# Altium integrated library NSC Temperature Sensor.IntLib: 99 symbols (part 1 of 3)
Pins are listed as number, name and electrical type; pins without a type are passive.

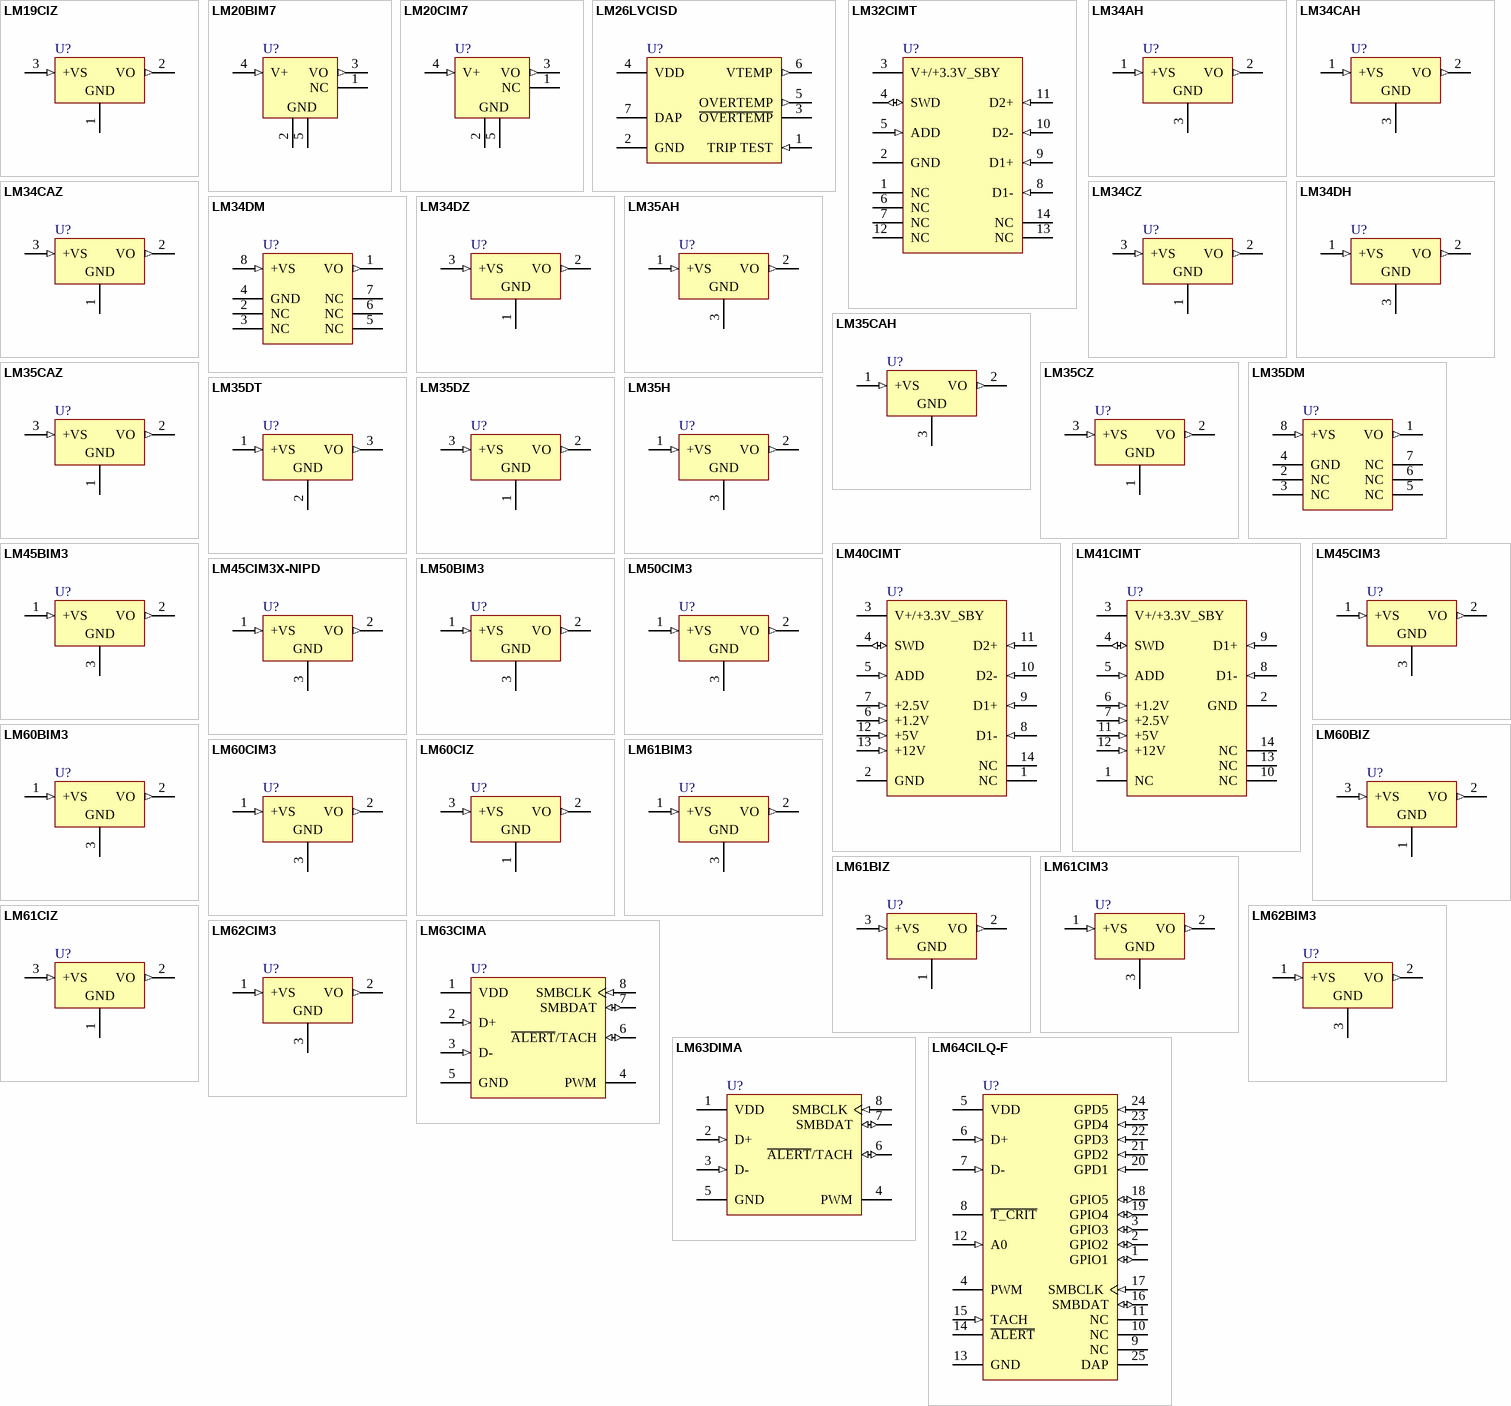
[diagram p0: symbols LM19CIZ to LM64CILQ-F]

## LM19CIZ
designator U?
2.4V, 10uA, TO-92 Temperature Sensor; PartNumber: LM19CIZ; Manufacturer: National Semiconductor; CompType: Temp Sensor IC; PackageTopMarking: NSXYTT*LM19*CIZ; Published: 4-Dec-2008; DatasheetVersion: Oct-2007; PackageVersion: revG, Sep-2000; PackageReference: Z03A; Publisher: Altium Limited; PackageDescription: TO-92, Molded, 3 Lead; RoHS: O; PinCount: 3; DigiKeyPartNumber: LM19CIZ-ND; Code_JEDEC: TO-226-AA; ComponentLink1Description: LM19 Datasheet; ComponentLink1URL: http://www.national.com/ds/LM/LM19.pdf; ComponentLink2Description: LM19 Web Page; ComponentLink2URL: http://www.national.com/pf/LM/LM19.html; ComponentLink3Description: Z03A Package Page; ComponentLink3URL: http://www.national.com/packaging/folders/z03a.html
footprint Z03A (TO, Flat Index; 3 In-Line, Axial Leads; Body Dia. 5mm; Leads 0.55 x 0.50 mm (max))
pins: 1 GND (power), 2 VO (out), 3 +VS (in)

## LM20BIM7
designator U?
2.4V, 10uA, SC70, micro SMD Temperature Sensor; PartNumber: LM20BIM7; Manufacturer: National Semiconductor; CompType: Temp Sensor IC; PackageTopMarking: T2B*XTT; Published: 4-Dec-2008; DatasheetVersion: Oct-2007; PackageVersion: revD, Jun-2007; PackageReference: MAA05A; Publisher: Altium Limited; PackageDescription: Molded SC-70, 2 x 1.25 x .9mm, 5 Lead, 0.65mm Pitch; RoHS: O; PinCount: 5; DigiKeyPartNumber: LM20BIM7CT-ND; Code_JEITA: SC-88A; Code_JEDEC: MO-203-AA; Code_IPC: SOT353-5; ComponentLink1Description: LM20 Datasheet; ComponentLink1URL: http://www.national.com/ds/LM/LM20.pdf; ComponentLink2Description: LM20 Web Page; ComponentLink2URL: http://www.national.com/pf/LM/LM20.html; ComponentLink3Description: MAA05A Package Page; ComponentLink3URL: http://www.national.com/packaging/folders/maa05a.html
footprint MAA05A_N (SOT353, 5-Leads, Body 2x1.3mm, Pitch 0.65mm, Lead Span 2.1mm, IPC Medium Density)
footprint MAA05A_L (SOT353, 5-Leads, Body 2x1.3mm, Pitch 0.65mm, Lead Span 2.1mm, IPC High Density)
footprint MAA05A_M (SOT353, 5-Leads, Body 2x1.3mm, Pitch 0.65mm, Lead Span 2.1mm, IPC Low Density)
pins: 1 NC "Not Connected", 2 GND (power) "Ground", 3 VO (out), 4 V+ (in), 5 GND (power) "Ground"

## LM20CIM7
designator U?
2.4V, 10uA, SC70, micro SMD Temperature Sensor; PartNumber: LM20CIM7; Manufacturer: National Semiconductor; CompType: Temp Sensor IC; PackageTopMarking: T2C*XTT; Published: 4-Dec-2008; DatasheetVersion: Oct-2007; PackageVersion: revD, Jun-2007; PackageReference: MAA05A; Publisher: Altium Limited; PackageDescription: Molded SC-70, 2 x 1.25 x .9mm, 5 Lead, 0.65mm Pitch; RoHS: O; PinCount: 5; DigiKeyPartNumber: LM20CIM7CT-ND; Code_JEITA: SC-88A; Code_JEDEC: MO-203-AA; Code_IPC: SOT353-5; ComponentLink1Description: LM20 Datasheet; ComponentLink1URL: http://www.national.com/ds/LM/LM20.pdf; ComponentLink2Description: LM20 Web Page; ComponentLink2URL: http://www.national.com/pf/LM/LM20.html; ComponentLink3Description: MAA05A Package Page; ComponentLink3URL: http://www.national.com/packaging/folders/maa05a.html
footprint MAA05A_N (SOT353, 5-Leads, Body 2x1.3mm, Pitch 0.65mm, Lead Span 2.1mm, IPC Medium Density)
footprint MAA05A_L (SOT353, 5-Leads, Body 2x1.3mm, Pitch 0.65mm, Lead Span 2.1mm, IPC High Density)
footprint MAA05A_M (SOT353, 5-Leads, Body 2x1.3mm, Pitch 0.65mm, Lead Span 2.1mm, IPC Low Density)
pins: 1 NC "Not Connected", 2 GND (power) "Ground", 3 VO (out), 4 V+ (in), 5 GND (power) "Ground"

## LM26LVCISD
designator U?
1.6V, LLP-6 Factory Preset Temperature Switch and Temperature Sensor; PartNumber: LM26LVCISD; Manufacturer: National Semiconductor; CompType: Temp Sensor IC; PackageTopMarking: XTT*XPE; Published: 4-Dec-2008; DatasheetVersion: May-2008; PackageVersion: revA, Nov-2003; PackageReference: SDB06A; Publisher: Altium Limited; PackageDescription: LLP, Plastic, Dual, 2.2 x 2.5 x 0.8mm Body, 6 Lead, 0.65mm Pitch, No Pullback; RoHS: O; PinCount: 6; DigiKeyPartNumber: LM26LVCISDCT-ND; ComponentLink1Description: LM26LV Datasheet; ComponentLink1URL: http://www.national.com/ds/LM/LM26LV.pdf; ComponentLink2Description: LM26LV Web Page; ComponentLink2URL: http://www.national.com/pf/LM/LM26LV.html; ComponentLink3Description: SDB06A Package Page; ComponentLink3URL: http://www.national.com/packaging/folders/sdb06a.html
footprint SDB06A (SON, 6-Leads, Body 2.2x2.5mm, Pitch 0.65mm, NSC Recommended (SC-70 Land))
pins: 1 TRIP TEST (in), 2 GND (power) "Ground", 3 ~{OVERTEMP} (oc), 4 VDD (power), 5 OVERTEMP (out), 6 VTEMP (out), 7 DAP (power) "Ground"

## LM32CIMT
designator U?
Dual Thermal Diode Temperature Sensor with SensorPath Bus; PartNumber: LM32CIMT; Manufacturer: National Semiconductor; CompType: Temp Sensor IC; PackageTopMarking: NSZXYTT*LM32*CIMT; Published: 4-Dec-2008; DatasheetVersion: May-2004; PackageVersion: revD, Jun-2003; PackageReference: MTC14; Publisher: Altium Limited; PackageDescription: Molded TSSOP, JEDEC, 5 x 4.4 x 0.9mm Body, 14 Lead, 0.65mm Pitch; RoHS: Y; PinCount: 14; DigiKeyPartNumber: LM32CIMT-ND; Code_JEDEC: MO-153-AB-1; ComponentLink1Description: LM32 Datasheet; ComponentLink1URL: http://www.national.com/ds.cgi/LM/LM32.pdf; ComponentLink2Description: LM32 Web Page; ComponentLink2URL: http://www.national.com/pf/LM/LM32.html; ComponentLink3Description: MTC14 Package Page; ComponentLink3URL: http://www.national.com/packaging/folders/mtc14.html
footprint MTC14_N (TSOP, 14-Leads, Body 5x4.4mm, Pitch 0.65mm, IPC Medium Density)
footprint MTC14_L (TSOP, 14-Leads, Body 5x4.4mm, Pitch 0.65mm, IPC High Density)
footprint MTC14_M (TSOP, 14-Leads, Body 5x4.4mm, Pitch 0.65mm, IPC Low Density)
pins: 1 NC, 2 GND (power), 3 V+/+3.3V_SBY (power), 4 SWD (io), 5 ADD (in), 6 NC, 7 NC, 8 D1- (in), 9 D1+ (in), 10 D2- (in), 11 D2+ (in), 12 NC, 13 NC, 14 NC

## LM34AH
designator U?
Precision Fahrenheit Temperature Sensor; PartNumber: LM34AH; Manufacturer: National Semiconductor; CompType: Temp Sensor IC; PackageTopMarking: NSXYTTE# LM34AH; Published: 4-Dec-2008; DatasheetVersion: Nov-2000; PackageVersion: revF, Apr-2002; PackageReference: H03H; Publisher: Altium Limited; PackageDescription: Metal Can, TO-46, 3 Lead, .100in Dia, P.C.; RoHS: O; PinCount: 3; DigiKeyPartNumber: LM34AH-ND; Code_JEDEC: TO-46; ComponentLink1Description: LM34 Datasheet; ComponentLink1URL: http://www.national.com/ds/LM/LM34.pdf; ComponentLink2Description: LM34 Web Page; ComponentLink2URL: http://www.national.com/pf/LM/LM34.html; ComponentLink3Description: H03H Package Page; ComponentLink3URL: http://www.national.com/packaging/folders/h03h.html
footprint H03H (Can; 3 Leads; Pin Circle Dia. 2.54 mm; Lead Dia. 0.48 mm (max))
pins: 1 +VS (in), 2 VO (out), 3 GND (power)

## LM34CAH
designator U?
Precision Fahrenheit Temperature Sensor; PartNumber: LM34CAH; Manufacturer: National Semiconductor; CompType: Temp Sensor IC; PackageTopMarking: NSXYTTE# LM34CAH; Published: 4-Dec-2008; DatasheetVersion: Nov-2000; PackageVersion: revF, Apr-2002; PackageReference: H03H; Publisher: Altium Limited; PackageDescription: Metal Can, TO-46, 3 Lead, .100in Dia, P.C.; RoHS: O; PinCount: 3; DigiKeyPartNumber: LM34CAH-ND; Code_JEDEC: TO-46; ComponentLink1Description: LM34 Datasheet; ComponentLink1URL: http://www.national.com/ds/LM/LM34.pdf; ComponentLink2Description: LM34 Web Page; ComponentLink2URL: http://www.national.com/pf/LM/LM34.html; ComponentLink3Description: H03H Package Page; ComponentLink3URL: http://www.national.com/packaging/folders/h03h.html
footprint H03H (Can; 3 Leads; Pin Circle Dia. 2.54 mm; Lead Dia. 0.48 mm (max))
pins: 1 +VS (in), 2 VO (out), 3 GND (power)

## LM34CAZ
designator U?
Precision Fahrenheit Temperature Sensor; PartNumber: LM34CAZ; Manufacturer: National Semiconductor; CompType: Temp Sensor IC; PackageTopMarking: NSXYTT*LM34*CAZ; Published: 4-Dec-2008; DatasheetVersion: Nov-2000; PackageVersion: revG, Sep-2000; PackageReference: Z03A; Publisher: Altium Limited; PackageDescription: TO-92, Molded, 3 Lead; RoHS: O; PinCount: 3; DigiKeyPartNumber: LM34CAZ-ND; Code_JEDEC: TO-226-AA; ComponentLink1Description: LM34 Datasheet; ComponentLink1URL: http://www.national.com/ds/LM/LM34.pdf; ComponentLink2Description: LM34 Web Page; ComponentLink2URL: http://www.national.com/pf/LM/LM34.html; ComponentLink3Description: Z03A Package Page; ComponentLink3URL: http://www.national.com/packaging/folders/z03a.html
footprint Z03A (TO, Flat Index; 3 In-Line, Axial Leads; Body Dia. 5mm; Leads 0.55 x 0.50 mm (max))
pins: 1 GND (power), 2 VO (out), 3 +VS (in)

## LM34CZ
designator U?
Precision Fahrenheit Temperature Sensor; PartNumber: LM34CZ; Manufacturer: National Semiconductor; CompType: Temp Sensor IC; PackageTopMarking: NSXYTT*LM34*CZ; Published: 4-Dec-2008; DatasheetVersion: Nov-2000; PackageVersion: revG, Sep-2000; PackageReference: Z03A; Publisher: Altium Limited; PackageDescription: TO-92, Molded, 3 Lead; RoHS: O; PinCount: 3; DigiKeyPartNumber: LM34CZ-ND; Code_JEDEC: TO-226-AA; ComponentLink1Description: LM34 Datasheet; ComponentLink1URL: http://www.national.com/ds/LM/LM34.pdf; ComponentLink2Description: LM34 Web Page; ComponentLink2URL: http://www.national.com/pf/LM/LM34.html; ComponentLink3Description: Z03A Package Page; ComponentLink3URL: http://www.national.com/packaging/folders/z03a.html
footprint Z03A (TO, Flat Index; 3 In-Line, Axial Leads; Body Dia. 5mm; Leads 0.55 x 0.50 mm (max))
pins: 1 GND (power), 2 VO (out), 3 +VS (in)

## LM34DH
designator U?
Precision Fahrenheit Temperature Sensor; PartNumber: LM34DH; Manufacturer: National Semiconductor; CompType: Temp Sensor IC; PackageTopMarking: NSXYTTE# LM34DH; Published: 4-Dec-2008; DatasheetVersion: Nov-2000; PackageVersion: revF, Apr-2002; PackageReference: H03H; Publisher: Altium Limited; PackageDescription: Metal Can, TO-46, 3 Lead, .100in Dia, P.C.; RoHS: O; PinCount: 3; Code_JEDEC: TO-46; ComponentLink1Description: LM34 Datasheet; ComponentLink1URL: http://www.national.com/ds/LM/LM34.pdf; ComponentLink2Description: LM34 Web Page; ComponentLink2URL: http://www.national.com/pf/LM/LM34.html; ComponentLink3Description: H03H Package Page; ComponentLink3URL: http://www.national.com/packaging/folders/h03h.html
footprint H03H (Can; 3 Leads; Pin Circle Dia. 2.54 mm; Lead Dia. 0.48 mm (max))
pins: 1 +VS (in), 2 VO (out), 3 GND (power)

## LM34DM
designator U?
Precision Fahrenheit Temperature Sensor; PartNumber: LM34DM; Manufacturer: National Semiconductor; CompType: Temp Sensor IC; PackageTopMarking: NSZXTT*LM34D*M; Published: 4-Dec-2008; DatasheetVersion: Nov-2000; PackageVersion: revL, Sep-2006; PackageReference: M08A; Publisher: Altium Limited; PackageDescription: SOIC Narrow, 4.9 x 3.9 x 1.45mm, 8 Lead, 1.27mm Pitch; RoHS: O; PinCount: 8; DigiKeyPartNumber: LM34DM-ND; Code_JEDEC: MS-012-AA; Code_IPC: SOIC127P600-8; ComponentLink1Description: LM34 Datasheet; ComponentLink1URL: http://www.national.com/ds/LM/LM34.pdf; ComponentLink2Description: LM34 Web Page; ComponentLink2URL: http://www.national.com/pf/LM/LM34.html; ComponentLink3Description: M08A Package Page; ComponentLink3URL: http://www.national.com/packaging/folders/m08a.html
footprint M08A_N (SOIC, 8-Leads, Body 4.9x3.9mm, Pitch 1.27mm, IPC Medium Density)
footprint M08A_L (SOIC, 8-Leads, Body 4.9x3.9mm, Pitch 1.27mm, IPC High Density)
footprint M08A_M (SOIC, 8-Leads, Body 4.9x3.9mm, Pitch 1.27mm, IPC Low Density)
pins: 1 VO (out), 2 NC "Not Connected", 3 NC, 4 GND (power), 5 NC, 6 NC, 7 NC, 8 +VS (in)

## LM34DZ
designator U?
Precision Fahrenheit Temperature Sensor; PartNumber: LM34DZ; Manufacturer: National Semiconductor; CompType: Temp Sensor IC; PackageTopMarking: NSXYTT*LM34*DZ; Published: 4-Dec-2008; DatasheetVersion: Nov-2000; PackageVersion: revG, Sep-2000; PackageReference: Z03A; Publisher: Altium Limited; PackageDescription: TO-92, Molded, 3 Lead; RoHS: O; PinCount: 3; DigiKeyPartNumber: LM34DZ-ND; Code_JEDEC: TO-226-AA; ComponentLink1Description: LM34 Datasheet; ComponentLink1URL: http://www.national.com/ds/LM/LM34.pdf; ComponentLink2Description: LM34 Web Page; ComponentLink2URL: http://www.national.com/pf/LM/LM34.html; ComponentLink3Description: Z03A Package Page; ComponentLink3URL: http://www.national.com/packaging/folders/z03a.html
footprint Z03A (TO, Flat Index; 3 In-Line, Axial Leads; Body Dia. 5mm; Leads 0.55 x 0.50 mm (max))
pins: 1 GND (power), 2 VO (out), 3 +VS (in)

## LM35AH
designator U?
Precision Centigrade Temperature Sensor; PartNumber: LM35AH; Manufacturer: National Semiconductor; CompType: Temp Sensor IC; PackageTopMarking: NSXYTTE# LM35AH; Published: 4-Dec-2008; DatasheetVersion: Nov-2000; PackageVersion: revF, Apr-2002; PackageReference: H03H; Publisher: Altium Limited; PackageDescription: Metal Can, TO-46, 3 Lead, .100in Dia, P.C.; RoHS: O; PinCount: 3; DigiKeyPartNumber: LM35AH-ND; Code_JEDEC: TO-46; ComponentLink1Description: LM35 Datasheet; ComponentLink1URL: http://www.national.com/ds/LM/LM35.pdf; ComponentLink2Description: LM35 Web Page; ComponentLink2URL: http://www.national.com/pf/LM/LM35.html; ComponentLink3Description: H03H Package Page; ComponentLink3URL: http://www.national.com/packaging/folders/h03h.html
footprint H03H (Can; 3 Leads; Pin Circle Dia. 2.54 mm; Lead Dia. 0.48 mm (max))
pins: 1 +VS (in), 2 VO (out), 3 GND (power)

## LM35CAH
designator U?
Precision Centigrade Temperature Sensor; PartNumber: LM35CAH; Manufacturer: National Semiconductor; CompType: Temp Sensor IC; PackageTopMarking: NSXYTTE# LM35CAH; Published: 4-Dec-2008; DatasheetVersion: Nov-2000; PackageVersion: revF, Apr-2002; PackageReference: H03H; Publisher: Altium Limited; PackageDescription: Metal Can, TO-46, 3 Lead, .100in Dia, P.C.; RoHS: O; PinCount: 3; DigiKeyPartNumber: LM35CAH-ND; Code_JEDEC: TO-46; ComponentLink1Description: LM35 Datasheet; ComponentLink1URL: http://www.national.com/ds/LM/LM35.pdf; ComponentLink2Description: LM35 Web Page; ComponentLink2URL: http://www.national.com/pf/LM/LM35.html; ComponentLink3Description: H03H Package Page; ComponentLink3URL: http://www.national.com/packaging/folders/h03h.html
footprint H03H (Can; 3 Leads; Pin Circle Dia. 2.54 mm; Lead Dia. 0.48 mm (max))
pins: 1 +VS (in), 2 VO (out), 3 GND (power)

## LM35CAZ
designator U?
Precision Centigrade Temperature Sensor; PartNumber: LM35CAZ; Manufacturer: National Semiconductor; CompType: Temp Sensor IC; PackageTopMarking: NSXYTT*LM35*CAZ; Published: 4-Dec-2008; DatasheetVersion: Nov-2000; PackageVersion: revG, Sep-2000; PackageReference: Z03A; Publisher: Altium Limited; PackageDescription: TO-92, Molded, 3 Lead; RoHS: O; PinCount: 3; DigiKeyPartNumber: LM35CAZ-ND; Code_JEDEC: TO-226-AA; ComponentLink1Description: LM35 Datasheet; ComponentLink1URL: http://www.national.com/ds/LM/LM35.pdf; ComponentLink2Description: LM35 Web Page; ComponentLink2URL: http://www.national.com/pf/LM/LM35.html; ComponentLink3Description: Z03A Package Page; ComponentLink3URL: http://www.national.com/packaging/folders/z03a.html
footprint Z03A (TO, Flat Index; 3 In-Line, Axial Leads; Body Dia. 5mm; Leads 0.55 x 0.50 mm (max))
pins: 1 GND (power), 2 VO (out), 3 +VS (in)

## LM35CZ
designator U?
Precision Centigrade Temperature Sensor; PartNumber: LM35CZ; Manufacturer: National Semiconductor; CompType: Temp Sensor IC; PackageTopMarking: NSXYTT*LM35*CZ; Published: 4-Dec-2008; DatasheetVersion: Nov-2000; PackageVersion: revG, Sep-2000; PackageReference: Z03A; Publisher: Altium Limited; PackageDescription: TO-92, Molded, 3 Lead; RoHS: O; PinCount: 3; DigiKeyPartNumber: LM35CZ-ND; Code_JEDEC: TO-226-AA; ComponentLink1Description: LM35 Datasheet; ComponentLink1URL: http://www.national.com/ds/LM/LM35.pdf; ComponentLink2Description: LM35 Web Page; ComponentLink2URL: http://www.national.com/pf/LM/LM35.html; ComponentLink3Description: Z03A Package Page; ComponentLink3URL: http://www.national.com/packaging/folders/z03a.html
footprint Z03A (TO, Flat Index; 3 In-Line, Axial Leads; Body Dia. 5mm; Leads 0.55 x 0.50 mm (max))
pins: 1 GND (power), 2 VO (out), 3 +VS (in)

## LM35DM
designator U?
Precision Centigrade Temperature Sensor; PartNumber: LM35DM; Manufacturer: National Semiconductor; CompType: Temp Sensor IC; PackageTopMarking: NSZXTT*LM35D*M; Published: 4-Dec-2008; DatasheetVersion: Nov-2000; PackageVersion: revL, Sep-2006; PackageReference: M08A; Publisher: Altium Limited; PackageDescription: SOIC Narrow, 4.9 x 3.9 x 1.45mm, 8 Lead, 1.27mm Pitch; RoHS: O; PinCount: 8; DigiKeyPartNumber: LM35DM-ND; Code_JEDEC: MS-012-AA; Code_IPC: SOIC127P600-8; ComponentLink1Description: LM35 Datasheet; ComponentLink1URL: http://www.national.com/ds/LM/LM35.pdf; ComponentLink2Description: LM35 Web Page; ComponentLink2URL: http://www.national.com/pf/LM/LM35.html; ComponentLink3Description: M08A Package Page; ComponentLink3URL: http://www.national.com/packaging/folders/m08a.html
footprint M08A_N (SOIC, 8-Leads, Body 4.9x3.9mm, Pitch 1.27mm, IPC Medium Density)
footprint M08A_L (SOIC, 8-Leads, Body 4.9x3.9mm, Pitch 1.27mm, IPC High Density)
footprint M08A_M (SOIC, 8-Leads, Body 4.9x3.9mm, Pitch 1.27mm, IPC Low Density)
pins: 1 VO (out), 2 NC "Not Connected", 3 NC, 4 GND (power), 5 NC, 6 NC, 7 NC, 8 +VS (in)

## LM35DT
designator U?
Precision Centigrade Temperature Sensor; PartNumber: LM35DT; Manufacturer: National Semiconductor; CompType: Temp Sensor IC; PackageTopMarking: NSUZXYTTE#*LM35DT; Published: 4-Dec-2008; DatasheetVersion: Nov-2000; PackageVersion: revL, Jan-1993; PackageReference: TA03F; Publisher: Altium Limited; PackageDescription: TO-220, Molded, 3 Lead, Auto L/F; RoHS: O; PinCount: 3; DigiKeyPartNumber: LM35DT-ND; Code_JEDEC: TO-220-AB; ComponentLink1Description: LM35 Datasheet; ComponentLink1URL: http://www.national.com/ds/LM/LM35.pdf; ComponentLink2Description: LM35 Web Page; ComponentLink2URL: http://www.national.com/pf/LM/LM35.html; ComponentLink3Description: TA03F Package Page; ComponentLink3URL: http://www.national.com/packaging/folders/ta03f.html
footprint TA03F (TO, Thru-Hole, Vertical, Heatsink Mounted; 3 In-Line Leads; Pitch 2.54 mm)
pins: 1 +VS (in), 2 GND (power), 3 VO (out)

## LM35DZ
designator U?
Precision Centigrade Temperature Sensor; PartNumber: LM35DZ; Manufacturer: National Semiconductor; CompType: Temp Sensor IC; PackageTopMarking: NSXYTT*LM35*DZ; Published: 4-Dec-2008; DatasheetVersion: Nov-2000; PackageVersion: revG, Sep-2000; PackageReference: Z03A; Publisher: Altium Limited; PackageDescription: TO-92, Molded, 3 Lead; RoHS: O; PinCount: 3; DigiKeyPartNumber: LM35DZ-ND; Code_JEDEC: TO-226-AA; ComponentLink1Description: LM35 Datasheet; ComponentLink1URL: http://www.national.com/ds/LM/LM35.pdf; ComponentLink2Description: LM35 Web Page; ComponentLink2URL: http://www.national.com/pf/LM/LM35.html; ComponentLink3Description: Z03A Package Page; ComponentLink3URL: http://www.national.com/packaging/folders/z03a.html
footprint Z03A (TO, Flat Index; 3 In-Line, Axial Leads; Body Dia. 5mm; Leads 0.55 x 0.50 mm (max))
pins: 1 GND (power), 2 VO (out), 3 +VS (in)

## LM35H
designator U?
Precision Centigrade Temperature Sensor; PartNumber: LM35H; Manufacturer: National Semiconductor; CompType: Temp Sensor IC; PackageTopMarking: NSXYTTE# LM35H; Published: 4-Dec-2008; DatasheetVersion: Nov-2000; PackageVersion: revF, Apr-2002; PackageReference: H03H; Publisher: Altium Limited; PackageDescription: Metal Can, TO-46, 3 Lead, .100in Dia, P.C.; RoHS: O; PinCount: 3; Code_JEDEC: TO-46; ComponentLink1Description: LM35 Datasheet; ComponentLink1URL: http://www.national.com/ds/LM/LM35.pdf; ComponentLink2Description: LM35 Web Page; ComponentLink2URL: http://www.national.com/pf/LM/LM35.html; ComponentLink3Description: H03H Package Page; ComponentLink3URL: http://www.national.com/packaging/folders/h03h.html
footprint H03H (Can; 3 Leads; Pin Circle Dia. 2.54 mm; Lead Dia. 0.48 mm (max))
pins: 1 +VS (in), 2 VO (out), 3 GND (power)

## LM40CIMT
designator U?
Hardware Monitor with Dual Thermal Diodes and SensorPath Bus; PartNumber: LM40CIMT; Manufacturer: National Semiconductor; CompType: Temp Sensor IC; PackageTopMarking: NSZXYTT*LM40*CIMT; Published: 4-Dec-2008; DatasheetVersion: May-2004; PackageVersion: revD, Jun-2003; PackageReference: MTC14; Publisher: Altium Limited; PackageDescription: Molded TSSOP, JEDEC, 5 x 4.4 x 0.9mm Body, 14 Lead, 0.65mm Pitch; RoHS: Y; PinCount: 14; DigiKeyPartNumber: LM40CIMT-ND; Code_JEDEC: MO-153-AB-1; ComponentLink1Description: LM40 Datasheet; ComponentLink1URL: http://www.national.com/ds/LM/LM40.pdf; ComponentLink2Description: LM40 Web Page; ComponentLink2URL: http://www.national.com/pf/LM/LM40.html; ComponentLink3Description: MTC14 Package Page; ComponentLink3URL: http://www.national.com/packaging/folders/mtc14.html
footprint MTC14_N (TSOP, 14-Leads, Body 5x4.4mm, Pitch 0.65mm, IPC Medium Density)
footprint MTC14_L (TSOP, 14-Leads, Body 5x4.4mm, Pitch 0.65mm, IPC High Density)
footprint MTC14_M (TSOP, 14-Leads, Body 5x4.4mm, Pitch 0.65mm, IPC Low Density)
pins: 1 NC, 2 GND (power), 3 V+/+3.3V_SBY (power), 4 SWD (io), 5 ADD (in), 6 +1.2V (in), 7 +2.5V (in), 8 D1- (in), 9 D1+ (in), 10 D2- (in), 11 D2+ (in), 12 +5V (in), 13 +12V (in), 14 NC

## LM41CIMT
designator U?
Hardware Monitor with Thermal Diode Inputs and SensorPath Bus; PartNumber: LM41CIMT; Manufacturer: National Semiconductor; CompType: Temp Sensor IC; PackageTopMarking: NSZXYTT*LM41*CIMT; Published: 4-Dec-2008; DatasheetVersion: May-2004; PackageVersion: revD, Jun-2003; PackageReference: MTC14; Publisher: Altium Limited; PackageDescription: Molded TSSOP, JEDEC, 5 x 4.4 x 0.9mm Body, 14 Lead, 0.65mm Pitch; RoHS: Y; PinCount: 14; DigiKeyPartNumber: LM41CIMT-ND; Code_JEDEC: MO-153-AB-1; ComponentLink1Description: LM41 Datasheet; ComponentLink1URL: http://www.national.com/ds/LM/LM41.pdf; ComponentLink2Description: LM41 Web Page; ComponentLink2URL: http://www.national.com/pf/LM/LM41.html; ComponentLink3Description: MTC14 Package Page; ComponentLink3URL: http://www.national.com/packaging/folders/mtc14.html
footprint MTC14_N (TSOP, 14-Leads, Body 5x4.4mm, Pitch 0.65mm, IPC Medium Density)
footprint MTC14_L (TSOP, 14-Leads, Body 5x4.4mm, Pitch 0.65mm, IPC High Density)
footprint MTC14_M (TSOP, 14-Leads, Body 5x4.4mm, Pitch 0.65mm, IPC Low Density)
pins: 1 NC, 2 GND (power), 3 V+/+3.3V_SBY (power), 4 SWD (io), 5 ADD (in), 6 +1.2V (in), 7 +2.5V (in), 8 D1- (in), 9 D1+ (in), 10 NC, 11 +5V (in), 12 +12V (in), 13 NC, 14 NC

## LM45BIM3
designator U?
SOT-23 Precision Centigrade Temperature Sensor; PartNumber: LM45BIM3; Manufacturer: National Semiconductor; CompType: Temp Sensor IC; PackageTopMarking: T4B*XTT; Published: 4-Dec-2008; DatasheetVersion: Aug-2005; PackageVersion: revB, Mar-2003; PackageReference: MF03A; Publisher: Altium Limited; PackageDescription: Molded SOT-23, .115 x .051 x .037in Body, 3 Lead, .075 in Pitch; RoHS: O; PinCount: 3; DigiKeyPartNumber: LM45BIM3CT-ND; ComponentLink1Description: LM45 Datasheet; ComponentLink1URL: http://www.national.com/ds/LM/LM45.pdf; ComponentLink2Description: LM45 Web Page; ComponentLink2URL: http://www.national.com/pf/LM/LM45.html; ComponentLink3Description: MF03A Package Page; ComponentLink3URL: http://www.national.com/packaging/folders/mf03a.html
footprint MF03A_N (SOT23, 3-Leads, Body 2.9x1.3mm, Pitch 0.95mm, Lead Span 2.4mm, IPC Medium Density)
footprint MF03A_L (SOT23, 3-Leads, Body 2.9x1.3mm, Pitch 0.95mm, Lead Span 2.4mm, IPC High Density)
footprint MF03A_M (SOT23, 3-Leads, Body 2.9x1.3mm, Pitch 0.95mm, Lead Span 2.4mm, IPC Low Density)
pins: 1 +VS (in), 2 VO (out), 3 GND (power)

## LM45CIM3
designator U?
SOT-23 Precision Centigrade Temperature Sensor; PartNumber: LM45CIM3; Manufacturer: National Semiconductor; CompType: Temp Sensor IC; PackageTopMarking: T4C*XTT; Published: 4-Dec-2008; DatasheetVersion: Aug-2005; PackageVersion: revB, Mar-2003; PackageReference: MF03A; Publisher: Altium Limited; PackageDescription: Molded SOT-23, .115 x .051 x .037in Body, 3 Lead, .075 in Pitch; RoHS: O; PinCount: 3; DigiKeyPartNumber: LM45CIM3CT-ND; ComponentLink1Description: LM45 Datasheet; ComponentLink1URL: http://www.national.com/ds/LM/LM45.pdf; ComponentLink2Description: LM45 Web Page; ComponentLink2URL: http://www.national.com/pf/LM/LM45.html; ComponentLink3Description: MF03A Package Page; ComponentLink3URL: http://www.national.com/packaging/folders/mf03a.html
footprint MF03A_N (SOT23, 3-Leads, Body 2.9x1.3mm, Pitch 0.95mm, Lead Span 2.4mm, IPC Medium Density)
footprint MF03A_L (SOT23, 3-Leads, Body 2.9x1.3mm, Pitch 0.95mm, Lead Span 2.4mm, IPC High Density)
footprint MF03A_M (SOT23, 3-Leads, Body 2.9x1.3mm, Pitch 0.95mm, Lead Span 2.4mm, IPC Low Density)
pins: 1 +VS (in), 2 VO (out), 3 GND (power)

## LM45CIM3X-NIPD
designator U?
SOT-23 Precision Centigrade Temperature Sensor; PartNumber: LM45CIM3X-NIPD; Manufacturer: National Semiconductor; CompType: Temp Sensor IC; PackageTopMarking: T4N*XTT; Published: 4-Dec-2008; DatasheetVersion: Aug-2005; PackageVersion: revB, Mar-2003; PackageReference: MF03A; Publisher: Altium Limited; PackageDescription: Molded SOT-23, .115 x .051 x .037in Body, 3 Lead, .075 in Pitch; RoHS: Y; PinCount: 3; ComponentLink1Description: LM45 Datasheet; ComponentLink1URL: http://www.national.com/ds/LM/LM45.pdf; ComponentLink2Description: LM45 Web Page; ComponentLink2URL: http://www.national.com/pf/LM/LM45.html; ComponentLink3Description: MF03A Package Page; ComponentLink3URL: http://www.national.com/packaging/folders/mf03a.html
footprint MF03A_N (SOT23, 3-Leads, Body 2.9x1.3mm, Pitch 0.95mm, Lead Span 2.4mm, IPC Medium Density)
footprint MF03A_L (SOT23, 3-Leads, Body 2.9x1.3mm, Pitch 0.95mm, Lead Span 2.4mm, IPC High Density)
footprint MF03A_M (SOT23, 3-Leads, Body 2.9x1.3mm, Pitch 0.95mm, Lead Span 2.4mm, IPC Low Density)
pins: 1 +VS (in), 2 VO (out), 3 GND (power)

## LM50BIM3
designator U?
SOT-23 Single-Supply Centigrade Temperature Sensor; PartNumber: LM50BIM3; Manufacturer: National Semiconductor; CompType: Temp Sensor IC; PackageTopMarking: T5B*XTT; Published: 4-Dec-2008; DatasheetVersion: Feb-2006; PackageVersion: revB, Mar-2003; PackageReference: MF03A; Publisher: Altium Limited; PackageDescription: Molded SOT-23, .115 x .051 x .037in Body, 3 Lead, .075 in Pitch; RoHS: O; PinCount: 3; DigiKeyPartNumber: LM50BIM3CT-ND; ComponentLink1Description: LM50 Datasheet; ComponentLink1URL: http://www.national.com/ds/LM/LM50.pdf; ComponentLink2Description: LM50 Web Page; ComponentLink2URL: http://www.national.com/pf/LM/LM50.html; ComponentLink3Description: MF03A Package Page; ComponentLink3URL: http://www.national.com/packaging/folders/mf03a.html
footprint MF03A_N (SOT23, 3-Leads, Body 2.9x1.3mm, Pitch 0.95mm, Lead Span 2.4mm, IPC Medium Density)
footprint MF03A_L (SOT23, 3-Leads, Body 2.9x1.3mm, Pitch 0.95mm, Lead Span 2.4mm, IPC High Density)
footprint MF03A_M (SOT23, 3-Leads, Body 2.9x1.3mm, Pitch 0.95mm, Lead Span 2.4mm, IPC Low Density)
pins: 1 +VS (in), 2 VO (out), 3 GND (power)

## LM50CIM3
designator U?
SOT-23 Single-Supply Centigrade Temperature Sensor; PartNumber: LM50CIM3; Manufacturer: National Semiconductor; CompType: Temp Sensor IC; PackageTopMarking: T5C*XTT; Published: 4-Dec-2008; DatasheetVersion: Feb-2006; PackageVersion: revB, Mar-2003; PackageReference: MF03A; Publisher: Altium Limited; PackageDescription: Molded SOT-23, .115 x .051 x .037in Body, 3 Lead, .075 in Pitch; RoHS: O; PinCount: 3; DigiKeyPartNumber: LM50CIM3CT-ND; ComponentLink1Description: LM50 Datasheet; ComponentLink1URL: http://www.national.com/ds/LM/LM50.pdf; ComponentLink2Description: LM50 Web Page; ComponentLink2URL: http://www.national.com/pf/LM/LM50.html; ComponentLink3Description: MF03A Package Page; ComponentLink3URL: http://www.national.com/packaging/folders/mf03a.html
footprint MF03A_N (SOT23, 3-Leads, Body 2.9x1.3mm, Pitch 0.95mm, Lead Span 2.4mm, IPC Medium Density)
footprint MF03A_L (SOT23, 3-Leads, Body 2.9x1.3mm, Pitch 0.95mm, Lead Span 2.4mm, IPC High Density)
footprint MF03A_M (SOT23, 3-Leads, Body 2.9x1.3mm, Pitch 0.95mm, Lead Span 2.4mm, IPC Low Density)
pins: 1 +VS (in), 2 VO (out), 3 GND (power)

## LM60BIM3
designator U?
2.7V, SOT-23 or TO-92 Temperature Sensor; PartNumber: LM60BIM3; Manufacturer: National Semiconductor; CompType: Temp Sensor IC; PackageTopMarking: T6B*XTT; Published: 4-Dec-2008; DatasheetVersion: Aug-2005; PackageVersion: revB, Mar-2003; PackageReference: MF03A; Publisher: Altium Limited; PackageDescription: Molded SOT-23, .115 x .051 x .037in Body, 3 Lead, .075 in Pitch; RoHS: O; PinCount: 3; DigiKeyPartNumber: LM60BIM3CT-ND; ComponentLink1Description: LM60 Datasheet; ComponentLink1URL: http://www.national.com/ds/LM/LM60.pdf; ComponentLink2Description: LM60 Web Page; ComponentLink2URL: http://www.national.com/pf/LM/LM60.html; ComponentLink3Description: MF03A Package Page; ComponentLink3URL: http://www.national.com/packaging/folders/mf03a.html
footprint MF03A_N (SOT23, 3-Leads, Body 2.9x1.3mm, Pitch 0.95mm, Lead Span 2.4mm, IPC Medium Density)
footprint MF03A_L (SOT23, 3-Leads, Body 2.9x1.3mm, Pitch 0.95mm, Lead Span 2.4mm, IPC High Density)
footprint MF03A_M (SOT23, 3-Leads, Body 2.9x1.3mm, Pitch 0.95mm, Lead Span 2.4mm, IPC Low Density)
pins: 1 +VS (in), 2 VO (out), 3 GND (power)

## LM60BIZ
designator U?
2.7V, SOT-23 or TO-92 Temperature Sensor; PartNumber: LM60BIZ; Manufacturer: National Semiconductor; CompType: Temp Sensor IC; PackageTopMarking: NSXYTT*LM60*BIZ; Published: 4-Dec-2008; DatasheetVersion: Aug-2005; PackageVersion: revG, Sep-2000; PackageReference: Z03A; Publisher: Altium Limited; PackageDescription: TO-92, Molded, 3 Lead; RoHS: Y; PinCount: 3; DigiKeyPartNumber: LM60BIZ-ND; Code_JEDEC: TO-226-AA; ComponentLink1Description: LM60 Datasheet; ComponentLink1URL: http://www.national.com/ds/LM/LM60.pdf; ComponentLink2Description: LM60 Web Page; ComponentLink2URL: http://www.national.com/pf/LM/LM60.html; ComponentLink3Description: Z03A Package Page; ComponentLink3URL: http://www.national.com/packaging/folders/z03a.html
footprint Z03A (TO, Flat Index; 3 In-Line, Axial Leads; Body Dia. 5mm; Leads 0.55 x 0.50 mm (max))
pins: 1 GND (power), 2 VO (out), 3 +VS (in)

## LM60CIM3
designator U?
2.7V, SOT-23 or TO-92 Temperature Sensor; PartNumber: LM60CIM3; Manufacturer: National Semiconductor; CompType: Temp Sensor IC; PackageTopMarking: T6C*XTT; Published: 4-Dec-2008; DatasheetVersion: Aug-2005; PackageVersion: revB, Mar-2003; PackageReference: MF03A; Publisher: Altium Limited; PackageDescription: Molded SOT-23, .115 x .051 x .037in Body, 3 Lead, .075 in Pitch; RoHS: O; PinCount: 3; DigiKeyPartNumber: LM60CIM3CT-ND; ComponentLink1Description: LM60 Datasheet; ComponentLink1URL: http://www.national.com/ds/LM/LM60.pdf; ComponentLink2Description: LM60 Web Page; ComponentLink2URL: http://www.national.com/pf/LM/LM60.html; ComponentLink3Description: MF03A Package Page; ComponentLink3URL: http://www.national.com/packaging/folders/mf03a.html
footprint MF03A_N (SOT23, 3-Leads, Body 2.9x1.3mm, Pitch 0.95mm, Lead Span 2.4mm, IPC Medium Density)
footprint MF03A_L (SOT23, 3-Leads, Body 2.9x1.3mm, Pitch 0.95mm, Lead Span 2.4mm, IPC High Density)
footprint MF03A_M (SOT23, 3-Leads, Body 2.9x1.3mm, Pitch 0.95mm, Lead Span 2.4mm, IPC Low Density)
pins: 1 +VS (in), 2 VO (out), 3 GND (power)

## LM60CIZ
designator U?
2.7V, SOT-23 or TO-92 Temperature Sensor; PartNumber: LM60CIZ; Manufacturer: National Semiconductor; CompType: Temp Sensor IC; PackageTopMarking: NSXYTT*LM60*CIZ; Published: 4-Dec-2008; DatasheetVersion: Aug-2005; PackageVersion: revG, Sep-2000; PackageReference: Z03A; Publisher: Altium Limited; PackageDescription: TO-92, Molded, 3 Lead; RoHS: Y; PinCount: 3; DigiKeyPartNumber: LM60CIZ-ND; Code_JEDEC: TO-226-AA; ComponentLink1Description: LM60 Datasheet; ComponentLink1URL: http://www.national.com/ds/LM/LM60.pdf; ComponentLink2Description: LM60 Web Page; ComponentLink2URL: http://www.national.com/pf/LM/LM60.html; ComponentLink3Description: Z03A Package Page; ComponentLink3URL: http://www.national.com/packaging/folders/z03a.html
footprint Z03A (TO, Flat Index; 3 In-Line, Axial Leads; Body Dia. 5mm; Leads 0.55 x 0.50 mm (max))
pins: 1 GND (power), 2 VO (out), 3 +VS (in)

## LM61BIM3
designator U?
2.7V, SOT-23 or TO-92 Temperature Sensor; PartNumber: LM61BIM3; Manufacturer: National Semiconductor; CompType: Temp Sensor IC; PackageTopMarking: T1B*XTT; Published: 4-Dec-2008; DatasheetVersion: Aug-2005; PackageVersion: revB, Mar-2003; PackageReference: MF03A; Publisher: Altium Limited; PackageDescription: Molded SOT-23, .115 x .051 x .037in Body, 3 Lead, .075 in Pitch; RoHS: O; PinCount: 3; DigiKeyPartNumber: LM61BIM3CT-ND; ComponentLink1Description: LM61 Datasheet; ComponentLink1URL: http://www.national.com/ds/LM/LM61.pdf; ComponentLink2Description: LM61 Web Page; ComponentLink2URL: http://www.national.com/pf/LM/LM61.html; ComponentLink3Description: MF03A Package Page; ComponentLink3URL: http://www.national.com/packaging/folders/mf03a.html
footprint MF03A_N (SOT23, 3-Leads, Body 2.9x1.3mm, Pitch 0.95mm, Lead Span 2.4mm, IPC Medium Density)
footprint MF03A_L (SOT23, 3-Leads, Body 2.9x1.3mm, Pitch 0.95mm, Lead Span 2.4mm, IPC High Density)
footprint MF03A_M (SOT23, 3-Leads, Body 2.9x1.3mm, Pitch 0.95mm, Lead Span 2.4mm, IPC Low Density)
pins: 1 +VS (in), 2 VO (out), 3 GND (power)

## LM61BIZ
designator U?
2.7V, SOT-23 or TO-92 Temperature Sensor; PartNumber: LM61BIZ; Manufacturer: National Semiconductor; CompType: Temp Sensor IC; PackageTopMarking: NSXYTT*LM61*BIZ; Published: 4-Dec-2008; DatasheetVersion: Aug-2005; PackageVersion: revG, Sep-2000; PackageReference: Z03A; Publisher: Altium Limited; PackageDescription: TO-92, Molded, 3 Lead; RoHS: Y; PinCount: 3; DigiKeyPartNumber: LM61BIZ-ND; Code_JEDEC: TO-226-AA; ComponentLink1Description: LM61 Datasheet; ComponentLink1URL: http://www.national.com/ds/LM/LM61.pdf; ComponentLink2Description: LM61 Web Page; ComponentLink2URL: http://www.national.com/pf/LM/LM61.html; ComponentLink3Description: Z03A Package Page; ComponentLink3URL: http://www.national.com/packaging/folders/z03a.html
footprint Z03A (TO, Flat Index; 3 In-Line, Axial Leads; Body Dia. 5mm; Leads 0.55 x 0.50 mm (max))
pins: 1 GND (power), 2 VO (out), 3 +VS (in)

## LM61CIM3
designator U?
2.7V, SOT-23 or TO-92 Temperature Sensor; PartNumber: LM61CIM3; Manufacturer: National Semiconductor; CompType: Temp Sensor IC; PackageTopMarking: T1C*XTT; Published: 4-Dec-2008; DatasheetVersion: Aug-2005; PackageVersion: revB, Mar-2003; PackageReference: MF03A; Publisher: Altium Limited; PackageDescription: Molded SOT-23, .115 x .051 x .037in Body, 3 Lead, .075 in Pitch; RoHS: O; PinCount: 3; DigiKeyPartNumber: LM61CIM3CT-ND; ComponentLink1Description: LM61 Datasheet; ComponentLink1URL: http://www.national.com/ds/LM/LM61.pdf; ComponentLink2Description: LM61 Web Page; ComponentLink2URL: http://www.national.com/pf/LM/LM61.html; ComponentLink3Description: MF03A Package Page; ComponentLink3URL: http://www.national.com/packaging/folders/mf03a.html
footprint MF03A_N (SOT23, 3-Leads, Body 2.9x1.3mm, Pitch 0.95mm, Lead Span 2.4mm, IPC Medium Density)
footprint MF03A_L (SOT23, 3-Leads, Body 2.9x1.3mm, Pitch 0.95mm, Lead Span 2.4mm, IPC High Density)
footprint MF03A_M (SOT23, 3-Leads, Body 2.9x1.3mm, Pitch 0.95mm, Lead Span 2.4mm, IPC Low Density)
pins: 1 +VS (in), 2 VO (out), 3 GND (power)

## LM61CIZ
designator U?
2.7V, SOT-23 or TO-92 Temperature Sensor; PartNumber: LM61CIZ; Manufacturer: National Semiconductor; CompType: Temp Sensor IC; PackageTopMarking: NSXYTT*LM61*CIZ; Published: 4-Dec-2008; DatasheetVersion: Aug-2005; PackageVersion: revG, Sep-2000; PackageReference: Z03A; Publisher: Altium Limited; PackageDescription: TO-92, Molded, 3 Lead; RoHS: Y; PinCount: 3; DigiKeyPartNumber: LM61CIZ-ND; Code_JEDEC: TO-226-AA; ComponentLink1Description: LM61 Datasheet; ComponentLink1URL: http://www.national.com/ds/LM/LM61.pdf; ComponentLink2Description: LM61 Web Page; ComponentLink2URL: http://www.national.com/pf/LM/LM61.html; ComponentLink3Description: Z03A Package Page; ComponentLink3URL: http://www.national.com/packaging/folders/z03a.html
footprint Z03A (TO, Flat Index; 3 In-Line, Axial Leads; Body Dia. 5mm; Leads 0.55 x 0.50 mm (max))
pins: 1 GND (power), 2 VO (out), 3 +VS (in)

## LM62BIM3
designator U?
2.7V, 15.6mV/deg C, SOT-23 Temperature Sensor; PartNumber: LM62BIM3; Manufacturer: National Semiconductor; CompType: Temp Sensor IC; PackageTopMarking: T7B*XTT; Published: 4-Dec-2008; DatasheetVersion: Aug-2005; PackageVersion: revB, Mar-2003; PackageReference: MF03A; Publisher: Altium Limited; PackageDescription: Molded SOT-23, .115 x .051 x .037in Body, 3 Lead, .075 in Pitch; RoHS: O; PinCount: 3; DigiKeyPartNumber: LM62BIM3CT-ND; ComponentLink1Description: LM62 Datasheet; ComponentLink1URL: http://www.national.com/ds/LM/LM62.pdf; ComponentLink2Description: LM62 Web Page; ComponentLink2URL: http://www.national.com/pf/LM/LM62.html; ComponentLink3Description: MF03A Package Page; ComponentLink3URL: http://www.national.com/packaging/folders/mf03a.html
footprint MF03A_N (SOT23, 3-Leads, Body 2.9x1.3mm, Pitch 0.95mm, Lead Span 2.4mm, IPC Medium Density)
footprint MF03A_L (SOT23, 3-Leads, Body 2.9x1.3mm, Pitch 0.95mm, Lead Span 2.4mm, IPC High Density)
footprint MF03A_M (SOT23, 3-Leads, Body 2.9x1.3mm, Pitch 0.95mm, Lead Span 2.4mm, IPC Low Density)
pins: 1 +VS (in), 2 VO (out), 3 GND (power)

## LM62CIM3
designator U?
2.7V, 15.6mV/deg C, SOT-23 Temperature Sensor; PartNumber: LM62CIM3; Manufacturer: National Semiconductor; CompType: Temp Sensor IC; PackageTopMarking: T7C*XTT; Published: 4-Dec-2008; DatasheetVersion: Aug-2005; PackageVersion: revB, Mar-2003; PackageReference: MF03A; Publisher: Altium Limited; PackageDescription: Molded SOT-23, .115 x .051 x .037in Body, 3 Lead, .075 in Pitch; RoHS: O; PinCount: 3; DigiKeyPartNumber: LM62CIM3CT-ND; ComponentLink1Description: LM62 Datasheet; ComponentLink1URL: http://www.national.com/ds/LM/LM62.pdf; ComponentLink2Description: LM62 Web Page; ComponentLink2URL: http://www.national.com/pf/LM/LM62.html; ComponentLink3Description: MF03A Package Page; ComponentLink3URL: http://www.national.com/packaging/folders/mf03a.html
footprint MF03A_N (SOT23, 3-Leads, Body 2.9x1.3mm, Pitch 0.95mm, Lead Span 2.4mm, IPC Medium Density)
footprint MF03A_L (SOT23, 3-Leads, Body 2.9x1.3mm, Pitch 0.95mm, Lead Span 2.4mm, IPC High Density)
footprint MF03A_M (SOT23, 3-Leads, Body 2.9x1.3mm, Pitch 0.95mm, Lead Span 2.4mm, IPC Low Density)
pins: 1 +VS (in), 2 VO (out), 3 GND (power)

## LM63CIMA
designator U?
±1ºC/±3ºC Accurate Remote Diode Digital Temperature Sensor with Integrated Fan Control; PartNumber: LM63CIMA; Manufacturer: National Semiconductor; CompType: Temp Sensor IC; PackageTopMarking: NSZXTT*LM63*CIMA; Published: 4-Dec-2008; DatasheetVersion: May-2003; PackageVersion: revL, Sep-2006; PackageReference: M08A; Publisher: Altium Limited; PackageDescription: SOIC Narrow, 4.9 x 3.9 x 1.45mm, 8 Lead, 1.27mm Pitch; RoHS: Y; PinCount: 8; DigiKeyPartNumber: LM63CIMA-ND; Code_JEDEC: MS-012-AA; Code_IPC: SOIC127P600-8; ComponentLink1Description: LM63 Datasheet; ComponentLink1URL: http://www.national.com/ds/LM/LM63.pdf; ComponentLink2Description: LM63 Web Page; ComponentLink2URL: http://www.national.com/pf/LM/LM63.html; ComponentLink3Description: M08A Package Page; ComponentLink3URL: http://www.national.com/packaging/folders/m08a.html
footprint M08A_N (SOIC, 8-Leads, Body 4.9x3.9mm, Pitch 1.27mm, IPC Medium Density)
footprint M08A_L (SOIC, 8-Leads, Body 4.9x3.9mm, Pitch 1.27mm, IPC High Density)
footprint M08A_M (SOIC, 8-Leads, Body 4.9x3.9mm, Pitch 1.27mm, IPC Low Density)
pins: 1 VDD (power), 2 D+ (in), 3 D- (in), 4 PWM (oc), 5 GND (power), 6 ~{ALERT}/TACH (io), 7 SMBDAT (io), 8 SMBCLK (in)

## LM63DIMA
designator U?
±1ºC/±3ºC Accurate Remote Diode Digital Temperature Sensor with Integrated Fan Control; PartNumber: LM63DIMA; Manufacturer: National Semiconductor; CompType: Temp Sensor IC; PackageTopMarking: NSZXTT*LM63*DIMA; Published: 4-Dec-2008; DatasheetVersion: May-2003; PackageVersion: revL, Sep-2006; PackageReference: M08A; Publisher: Altium Limited; PackageDescription: SOIC Narrow, 4.9 x 3.9 x 1.45mm, 8 Lead, 1.27mm Pitch; RoHS: O; PinCount: 8; DigiKeyPartNumber: LM63DIMA-ND; Code_JEDEC: MS-012-AA; Code_IPC: SOIC127P600-8; ComponentLink1Description: LM63 Datasheet; ComponentLink1URL: http://www.national.com/ds/LM/LM63.pdf; ComponentLink2Description: LM63 Web Page; ComponentLink2URL: http://www.national.com/pf/LM/LM63.html; ComponentLink3Description: M08A Package Page; ComponentLink3URL: http://www.national.com/packaging/folders/m08a.html
footprint M08A_N (SOIC, 8-Leads, Body 4.9x3.9mm, Pitch 1.27mm, IPC Medium Density)
footprint M08A_L (SOIC, 8-Leads, Body 4.9x3.9mm, Pitch 1.27mm, IPC High Density)
footprint M08A_M (SOIC, 8-Leads, Body 4.9x3.9mm, Pitch 1.27mm, IPC Low Density)
pins: 1 VDD (power), 2 D+ (in), 3 D- (in), 4 PWM (oc), 5 GND (power), 6 ~{ALERT}/TACH (io), 7 SMBDAT (io), 8 SMBCLK (in)

## LM64CILQ-F
designator U?
±1ºC Remote Diode Temperature Sensor with PWM Fan Control and 5 GPIO's; PartNumber: LM64CILQ-F; Manufacturer: National Semiconductor; CompType: Temp Sensor IC; PackageTopMarking: NS*UZXYTT*64CILQF; Published: 4-Dec-2008; DatasheetVersion: Dec-2003; PackageVersion: revB, Sep-2003; PackageReference: LQA24A; Publisher: Altium Limited; PackageDescription: LLP, Plastic, Quad, 5 x 4 x 0.8mm Body, 24 Lead, 0.5mm Pitch; RoHS: Y; PinCount: 24; DigiKeyPartNumber: LM64CILQ-F-ND; ComponentLink1Description: LM64 Datasheet; ComponentLink1URL: http://www.national.com/ds/LM/LM64.pdf; ComponentLink2Description: LM64 Web Page; ComponentLink2URL: http://www.national.com/pf/LM/LM64.html; ComponentLink3Description: LQA24A Package Page; ComponentLink3URL: http://www.national.com/packaging/folders/lqa24a.html
footprint LQA24A (PQFN, 24-Leads, Body 4x5mm, Pitch 0.5mm, NSC Recommended)
pins: 1 GPIO1 (io), 2 GPIO2 (io), 3 GPIO3 (io), 4 PWM (oc), 5 VDD (power), 6 D+ (in), 7 D- (in), 8 ~{T_CRIT} (oc), 9 NC, 10 NC, 11 NC, 12 A0 (in), 13 GND (power), 14 ~{ALERT} (oc), 15 TACH (in), 16 SMBDAT (io), 17 SMBCLK (in), 18 GPIO5 (io), 19 GPIO4 (io), 20 GPD1 (in), 21 GPD2 (in), 22 GPD3 (in), 23 GPD4 (in), 24 GPD5 (in), 25 DAP (power)

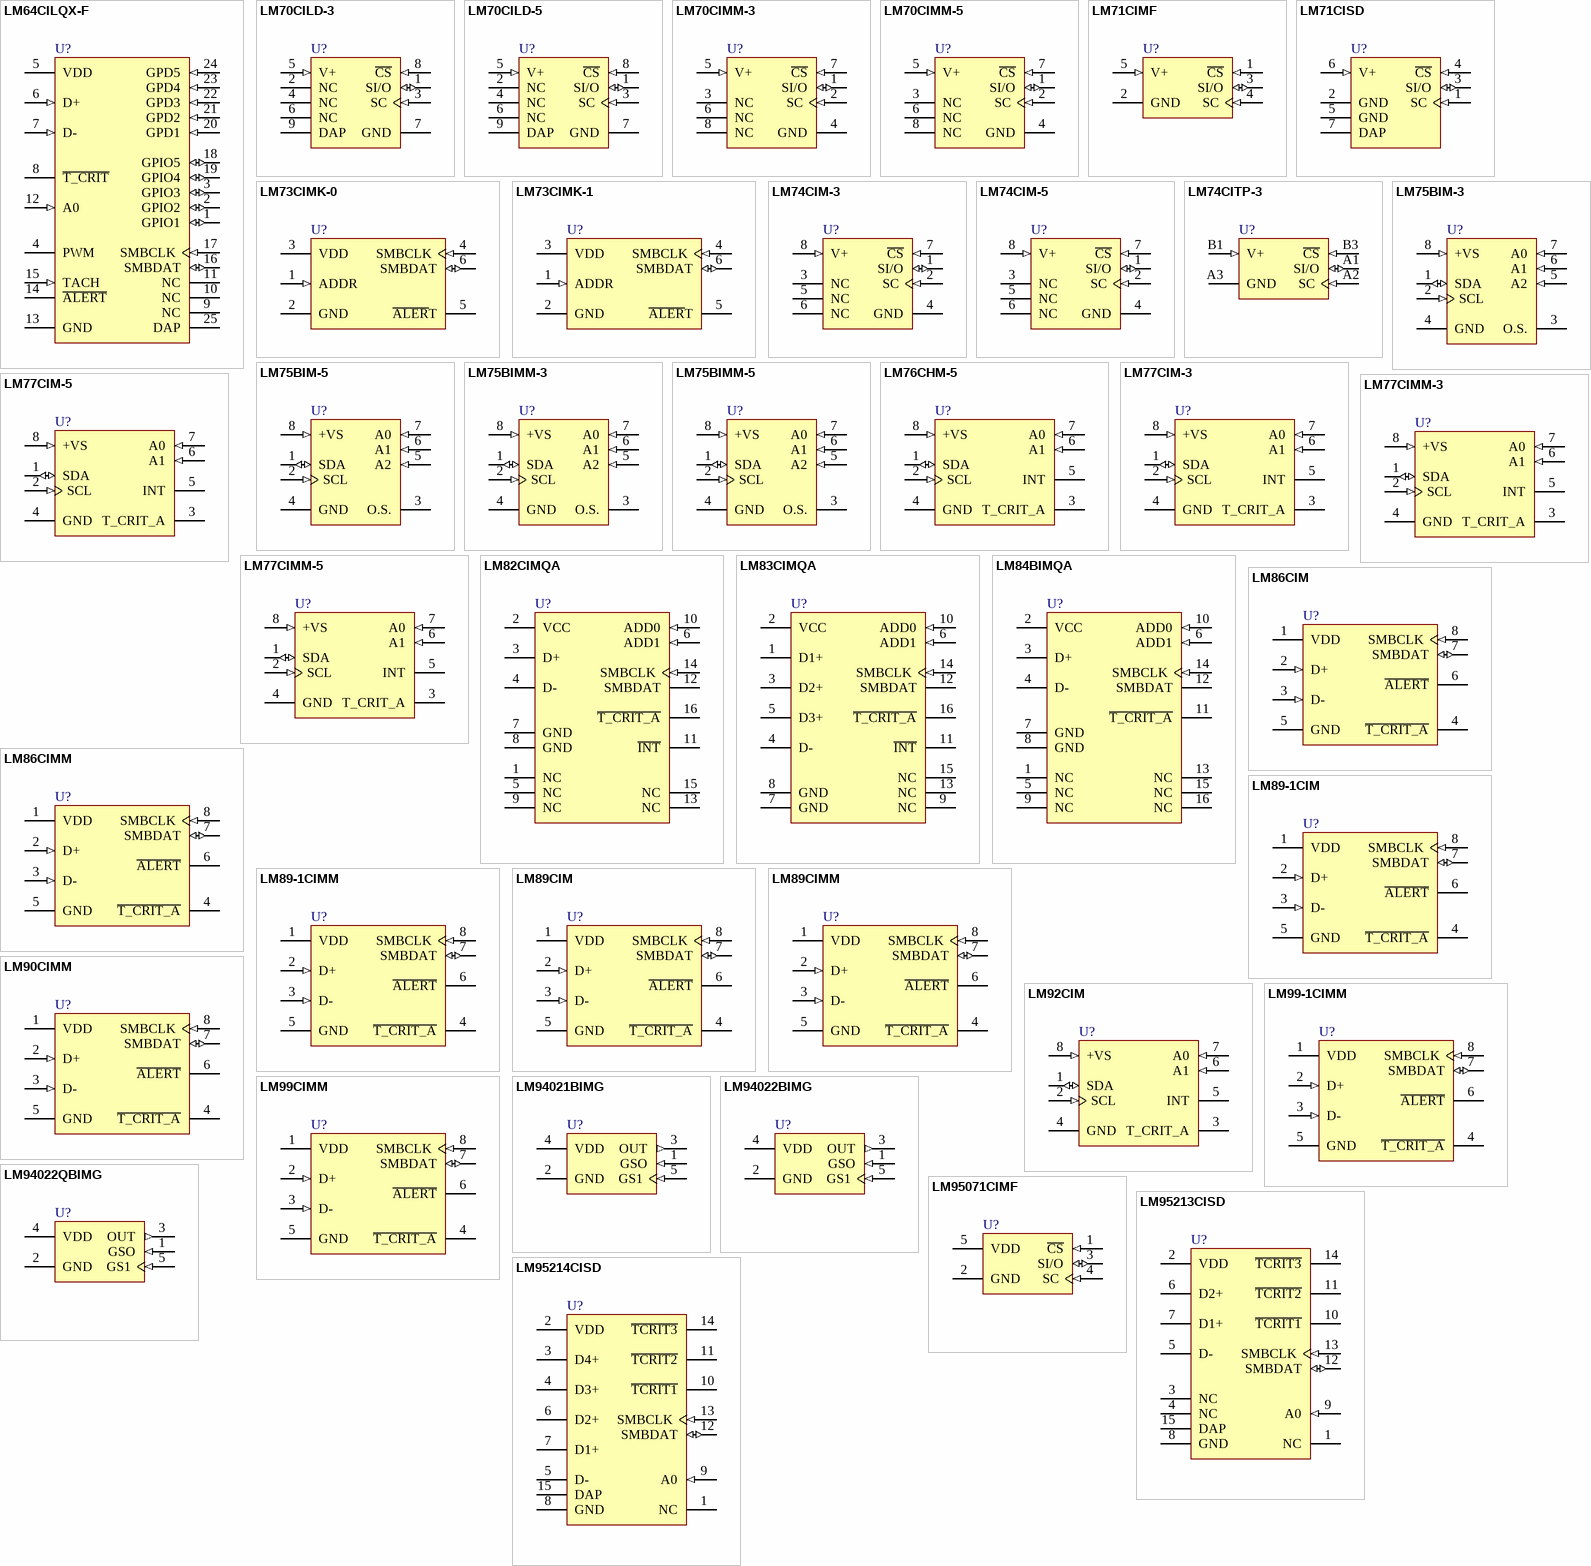
[diagram p1: symbols LM64CILQX-F to LM95214CISD]

## LM64CILQX-F
designator U?
±1ºC Remote Diode Temperature Sensor with PWM Fan Control and 5 GPIO's; PartNumber: LM64CILQX-F; Manufacturer: National Semiconductor; CompType: Temp Sensor IC; PackageTopMarking: NS*UZXYTT*CILQF; Published: 4-Dec-2008; DatasheetVersion: Dec-2003; PackageVersion: revB, Sep-2003; PackageReference: LQA24A; Publisher: Altium Limited; PackageDescription: LLP, Plastic, Quad, 5 x 4 x 0.8mm Body, 24 Lead, 0.5mm Pitch; RoHS: N; PinCount: 24; DigiKeyPartNumber: LM64CILQX-F-ND; ComponentLink1Description: LM64 Datasheet; ComponentLink1URL: http://www.national.com/ds/LM/LM64.pdf; ComponentLink2Description: LM64 Web Page; ComponentLink2URL: http://www.national.com/pf/LM/LM64.html; ComponentLink3Description: LQA24A Package Page; ComponentLink3URL: http://www.national.com/packaging/folders/lqa24a.html
footprint LQA24A (PQFN, 24-Leads, Body 4x5mm, Pitch 0.5mm, NSC Recommended)
pins: 1 GPIO1 (io), 2 GPIO2 (io), 3 GPIO3 (io), 4 PWM (oc), 5 VDD (power), 6 D+ (in), 7 D- (in), 8 ~{T_CRIT} (oc), 9 NC, 10 NC, 11 NC, 12 A0 (in), 13 GND (power), 14 ~{ALERT} (oc), 15 TACH (in), 16 SMBDAT (io), 17 SMBCLK (in), 18 GPIO5 (io), 19 GPIO4 (io), 20 GPD1 (in), 21 GPD2 (in), 22 GPD3 (in), 23 GPD4 (in), 24 GPD5 (in), 25 DAP (power)

## LM70CILD-3
designator U?
SPI/MICROWIRE 10-Bit plus Sign Digital Temperature Sensor; PartNumber: LM70CILD-3; Manufacturer: National Semiconductor; CompType: Temp Sensor IC; PackageTopMarking: ZXYTT*T33; Published: 4-Dec-2008; DatasheetVersion: Feb-2006; PackageVersion: revC, Nov-2002; PackageReference: LDA08A; Publisher: Altium Limited; PackageDescription: LLP, Plastic, Dual, 3 x 3 x 0.75mm Body, 8 Lead, 0.5mm Pitch; RoHS: Y; PinCount: 8; DigiKeyPartNumber: LM70CILD-3CT-ND; ComponentLink1Description: LM70 Datasheet; ComponentLink1URL: http://www.national.com/ds/LM/LM70.pdf; ComponentLink2Description: LM70 Web Page; ComponentLink2URL: http://www.national.com/pf/LM/LM70.html; ComponentLink3Description: LDA08A Package Page; ComponentLink3URL: http://www.national.com/packaging/folders/lda08a.html
footprint LDA08A (PSON, 8-Leads, Body 3x3mm, Pitch 0.5mm, NSC Recommended)
pins: 1 SI/O (io), 2 NC, 3 SC (in), 4 NC, 5 V+ (in), 6 NC, 7 GND (power), 8 ~{CS} (in), 9 DAP (power)

## LM70CILD-5
designator U?
SPI/MICROWIRE 10-Bit plus Sign Digital Temperature Sensor; PartNumber: LM70CILD-5; Manufacturer: National Semiconductor; CompType: Temp Sensor IC; PackageTopMarking: ZXYTT*T35; Published: 4-Dec-2008; DatasheetVersion: Feb-2006; PackageVersion: revC, Nov-2002; PackageReference: LDA08A; Publisher: Altium Limited; PackageDescription: LLP, Plastic, Dual, 3 x 3 x 0.75mm Body, 8 Lead, 0.5mm Pitch; RoHS: Y; PinCount: 8; DigiKeyPartNumber: LM70CILD-5CT-ND; ComponentLink1Description: LM70 Datasheet; ComponentLink1URL: http://www.national.com/ds/LM/LM70.pdf; ComponentLink2Description: LM70 Web Page; ComponentLink2URL: http://www.national.com/pf/LM/LM70.html; ComponentLink3Description: LDA08A Package Page; ComponentLink3URL: http://www.national.com/packaging/folders/lda08a.html
footprint LDA08A (PSON, 8-Leads, Body 3x3mm, Pitch 0.5mm, NSC Recommended)
pins: 1 SI/O (io), 2 NC, 3 SC (in), 4 NC, 5 V+ (in), 6 NC, 7 GND (power), 8 ~{CS} (in), 9 DAP (power)

## LM70CIMM-3
designator U?
SPI/MICROWIRE 10-Bit plus Sign Digital Temperature Sensor; PartNumber: LM70CIMM-3; Manufacturer: National Semiconductor; CompType: Temp Sensor IC; PackageTopMarking: ZXTT*T04C; Published: 4-Dec-2008; DatasheetVersion: Feb-2006; PackageVersion: revF, Apr-2008; PackageReference: MUA08A; Publisher: Altium Limited; PackageDescription: MINI SOIC, .118 x .118 x .034in, 8 Lead, .0256in Pitch; RoHS: O; PinCount: 8; DigiKeyPartNumber: LM70CIMM-3CT-ND; Code_JEDEC: MO-187-AA; ComponentLink1Description: LM70 Datasheet; ComponentLink1URL: http://www.national.com/ds/LM/LM70.pdf; ComponentLink2Description: LM70 Web Page; ComponentLink2URL: http://www.national.com/pf/LM/LM70.html; ComponentLink3Description: MUA08A Package Page; ComponentLink3URL: http://www.national.com/packaging/folders/mua08a.html
footprint MUA08A_N (TSOP, 8-Leads, Body 3x3mm, Pitch 0.65mm, IPC Medium Density)
footprint MUA08A_L (TSOP, 8-Leads, Body 3x3mm, Pitch 0.65mm, IPC High Density)
footprint MUA08A_M (TSOP, 8-Leads, Body 3x3mm, Pitch 0.65mm, IPC Low Density)
pins: 1 SI/O (io), 2 SC (in), 3 NC, 4 GND (power), 5 V+ (in), 6 NC, 7 ~{CS} (in), 8 NC

## LM70CIMM-5
designator U?
SPI/MICROWIRE 10-Bit plus Sign Digital Temperature Sensor; PartNumber: LM70CIMM-5; Manufacturer: National Semiconductor; CompType: Temp Sensor IC; PackageTopMarking: ZXTT*T03C; Published: 4-Dec-2008; DatasheetVersion: Feb-2006; PackageVersion: revF, Apr-2008; PackageReference: MUA08A; Publisher: Altium Limited; PackageDescription: MINI SOIC, .118 x .118 x .034in, 8 Lead, .0256in Pitch; RoHS: O; PinCount: 8; DigiKeyPartNumber: LM70CIMM-5CT-ND; Code_JEDEC: MO-187-AA; ComponentLink1Description: LM70 Datasheet; ComponentLink1URL: http://www.national.com/ds/LM/LM70.pdf; ComponentLink2Description: LM70 Web Page; ComponentLink2URL: http://www.national.com/pf/LM/LM70.html; ComponentLink3Description: MUA08A Package Page; ComponentLink3URL: http://www.national.com/packaging/folders/mua08a.html
footprint MUA08A_N (TSOP, 8-Leads, Body 3x3mm, Pitch 0.65mm, IPC Medium Density)
footprint MUA08A_L (TSOP, 8-Leads, Body 3x3mm, Pitch 0.65mm, IPC High Density)
footprint MUA08A_M (TSOP, 8-Leads, Body 3x3mm, Pitch 0.65mm, IPC Low Density)
pins: 1 SI/O (io), 2 SC (in), 3 NC, 4 GND (power), 5 V+ (in), 6 NC, 7 ~{CS} (in), 8 NC

## LM71CIMF
designator U?
SPI/MICROWIRE 13-Bit Plus Sign Temperature Sensor; PartNumber: LM71CIMF; Manufacturer: National Semiconductor; CompType: Temp Sensor IC; PackageTopMarking: T16C*XTT; Published: 4-Dec-2008; DatasheetVersion: Feb-2005; PackageVersion: revD, Aug-2008; PackageReference: MF05A; Publisher: Altium Limited; PackageDescription: Molded SOT-23, .115 x .063 x .040 in Body, 5 Lead, .0375 in Pitch; RoHS: O; PinCount: 5; DigiKeyPartNumber: LM71CIMFCT-ND; Code_IPC: SOT23-5; ComponentLink1Description: LM71 Datasheet; ComponentLink1URL: http://www.national.com/ds/LM/LM71.pdf; ComponentLink2Description: LM71 Web Page; ComponentLink2URL: http://www.national.com/pf/LM/LM71.html; ComponentLink3Description: MF05A Package Page; ComponentLink3URL: http://www.national.com/packaging/folders/mf05a.html
footprint MF05A_N (SOT23, 5-Leads, Body 2.9x1.6mm, Pitch 0.95mm, Lead Span 2.8mm, IPC Medium Density)
footprint MF05A_L (SOT23, 5-Leads, Body 2.9x1.6mm, Pitch 0.95mm, Lead Span 2.8mm, IPC High Density)
footprint MF05A_M (SOT23, 5-Leads, Body 2.9x1.6mm, Pitch 0.95mm, Lead Span 2.8mm, IPC Low Density)
pins: 1 ~{CS} (in), 2 GND (power), 3 SI/O (io), 4 SC (in), 5 V+ (in)

## LM71CISD
designator U?
SPI/MICROWIRE 13-Bit Plus Sign Temperature Sensor; PartNumber: LM71CISD; Manufacturer: National Semiconductor; CompType: Temp Sensor IC; PackageTopMarking: ZXYTT*L71CI; Published: 4-Dec-2008; DatasheetVersion: Feb-2005; PackageVersion: revA, Jul-2003; PackageReference: SDE06A; Publisher: Altium Limited; PackageDescription: LLP, Plastic, Dual, 3 x 3 x 0.8mm Body, 6 Lead, 0.95mm Pitch, No Pullback; RoHS: Y; PinCount: 6; DigiKeyPartNumber: LM71CISDCT-ND; ComponentLink1Description: LM71 Datasheet; ComponentLink1URL: http://www.national.com/ds/LM/LM71.pdf; ComponentLink2Description: LM71 Web Page; ComponentLink2URL: http://www.national.com/pf/LM/LM71.html; ComponentLink3Description: SDE06A Package Page; ComponentLink3URL: http://www.national.com/packaging/folders/sde06a.html
footprint SDE06A_full (SON, 6-Leads, Body 3x3 mm, Pitch 0.95mm, Full Paste, NSC Recommended)
footprint SDE06A_quad (SON, 6-Leads, Body 3x3 mm, Pitch 0.95mm, Quad Paste, NSC Recommended)
pins: 1 SC (in), 2 GND (power), 3 SI/O (io), 4 ~{CS} (in), 5 GND (power), 6 V+ (in), 7 DAP (power)